# Altium schematic symbol library ESP8266MOD.SchLib: 1 symbol
Pins are listed as number, name and electrical type; pins without a type are passive.

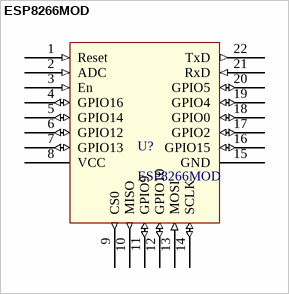
[diagram p0: symbol ESP8266MOD]

## ESP8266MOD
designator U?
Wi fi ESP
footprint ESP8266MOD Footprint
pins: 1 Reset (in), 2 ADC (in), 3 En (in), 4 GPIO16 (io), 5 GPIO14 (io), 6 GPIO12 (io), 7 GPIO13 (io), 8 VCC (power), 9 CS0 (out), 10 MISO (out), 11 GPIO9 (io), 12 GPIO10 (io), 13 MOSI (in), 14 SCLK (io), 15 GND (power), 16 GPIO15 (io), 17 GPIO2 (io), 18 GPIO0 (io), 19 GPIO4 (io), 20 GPIO5 (io), 21 RxD (in), 22 TxD (out)